# Altium footprint library Special.PcbLib: 67 footprints (part 3 of 5)
Each footprint in its own frame and in the unit in brackets; x right, y up, seen from the top. Pads: shape width x height; smd on the part's side, far side on the other; paste and mask are expansions set on the pad; w line width, h text height; cw(c..) or ccw(c..) is an arc to the next point about the centre after c.
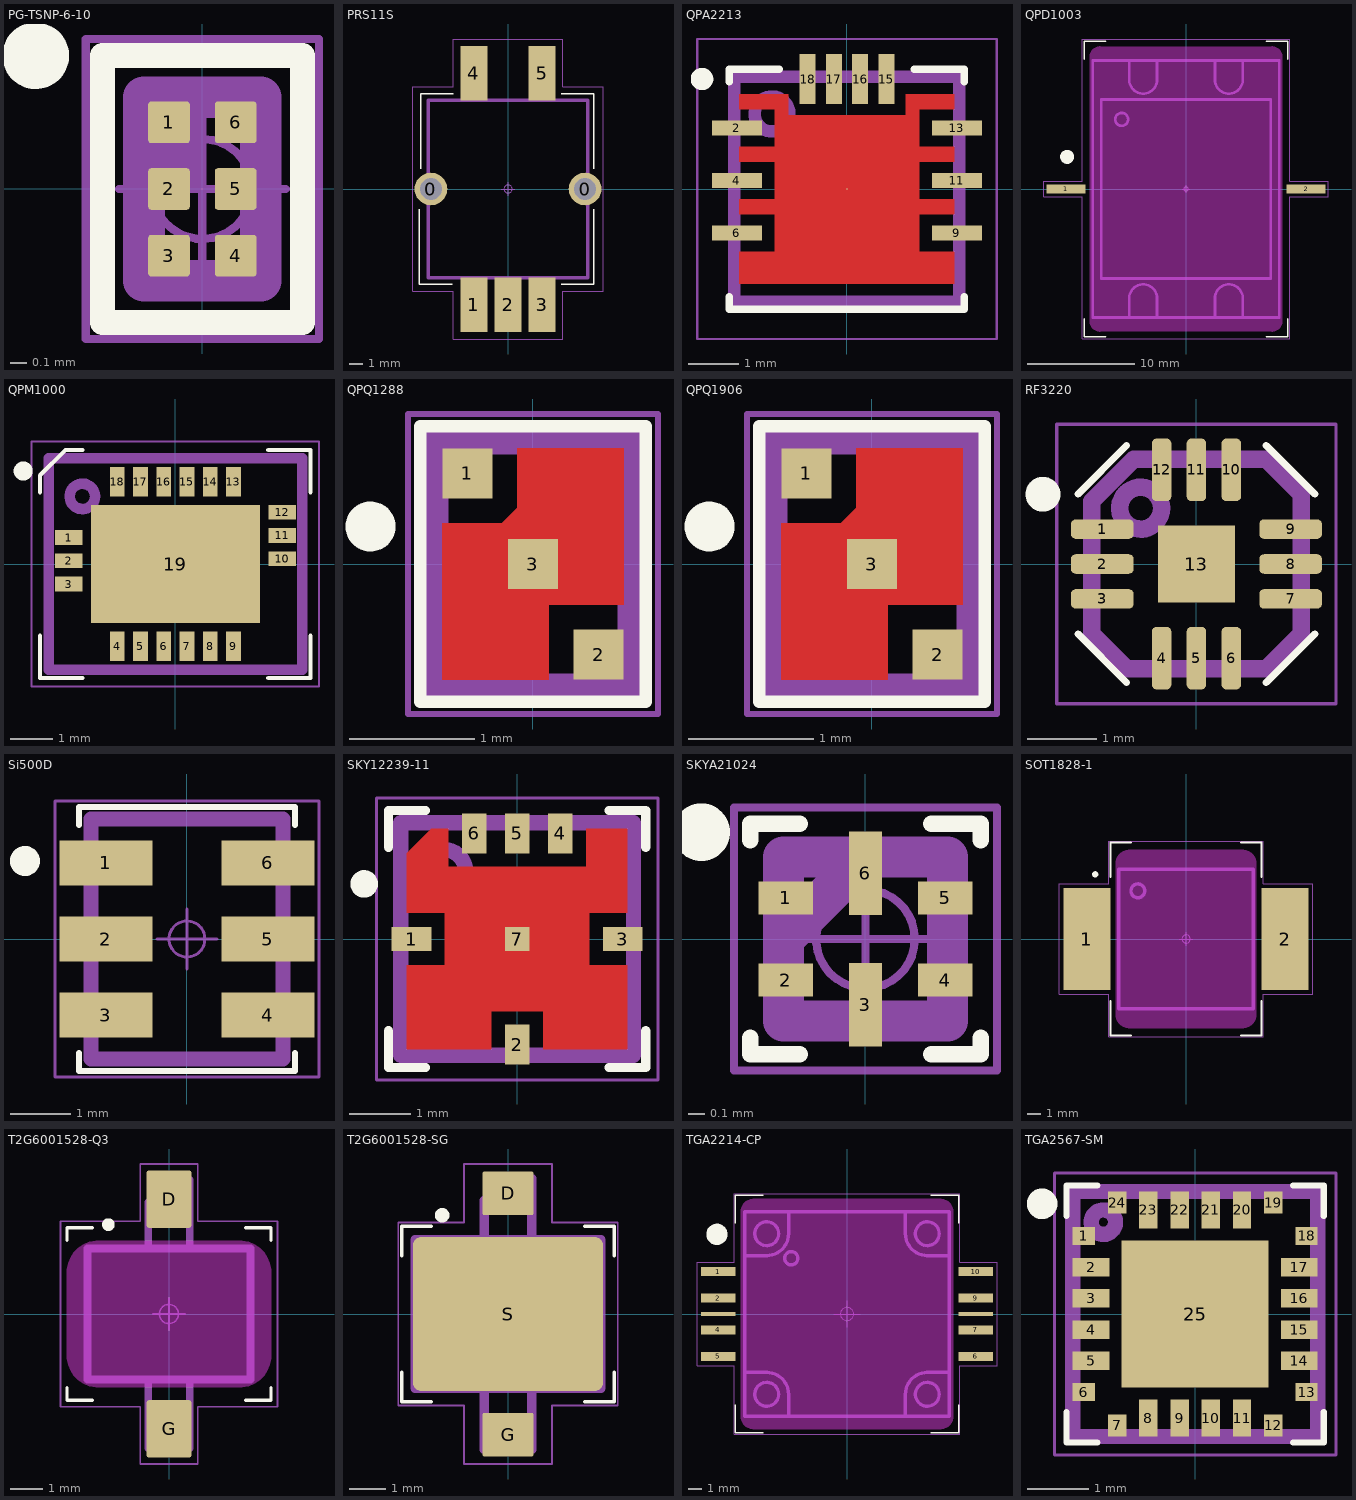
[diagram p2: the footprints below, top view; thin cyan lines are the x and y axes]

## PG-TSNP-6-10 [mm] "Infineon PG-TSNP-6-10 Package Outline (0.7mm x 1.1mm x 0.37mm)"
height 0.4
pads (6):
  rrect15% 0.25x0.25 smd: 1(-0.2,0.4) 2(-0.2,0) 3(-0.2,-0.4) 4(0.2,-0.4) 5(0.2,0) 6(0.2,0.4)
Top Overlay:
  circle w0.2: c-1,0.8 r0.1
  lines w0.15: -0.6,-0.8 -0.6,0.8 0.6,0.8 0.6,-0.8 -0.6,-0.8
Top Assembly:
  rectangle: -0.35,0 0,0.55
  lines w0.25: -0.35,-0.55 0.35,-0.55 0.35,0.55 -0.35,0.55 -0.35,-0.55
  text ".Designator" at 0.5,-0.318 h1.5
Top Courtyard:
  circle w0.05: c0,0 r0.3
  lines w0.05: -0.5,0 0.5,0 ; 0,-0.5 0,0.5 ; -0.7,-0.9 -0.7,0.9 0.7,0.9 0.7,-0.9 -0.7,-0.9
3D body "Case PG-TSNP-6-10.STEP": height 0.37, standoff 0, extent -0.35,-0.55 0.35,0.55

## PRS11S [mm] "PRS11S - 11 mm SMD Potentiometer"
height 20
pads (7):
  round 2.4 hole 1.6 unplated: 0(-5.65,0) 0(5.65,0)
  rect 2x4 smd: 1(-2.5,-8.5) 2(0,-8.5) 3(2.5,-8.5) 4(-2.5,8.5) 5(2.5,8.5)
Top Overlay:
  lines w0.1: -6.5,-1.5 -6.5,-7 -4.1,-7 ; -6.4,1.5 -6.4,7 -4,7 ; 3.9,-7 6.3,-7 6.3,-1.5 ; 3.9,7 6.3,7 6.3,1.5
Top Assembly:
  lines w0.25: -5.85,-6.5 -5.85,6.5 5.85,6.5 5.85,-6.5 -5.85,-6.5
  text ".Designator" at -3.3,-0.4 h1.5
Top Courtyard:
  circle w0.05: c0,0 r0.3
  lines w0.05: -0.5,0 0.5,0 ; 0,-0.5 0,0.5 ; -7,-7.5 -4,-7.5 -4,-11 4,-11 4,-7.5 7,-7.5 7,7.5 4,7.5 4,11 -4,11 -4,7.5 -7,7.5 -7,-7.5
3D body "PRS11S-11mm.STEP": height 20, standoff -1.4, extent -5.85,-9.5 5.85,9

## QPA2213 [mm] "Cu Based 4.5x4.5 Lamibate Package"
height 1.94
pads (11):
  round 0.025 smd: 1(0,0)
  rect 1x0.3 smd: 2(-2.2,1.216) 4(-2.2,0.166) 6(-2.2,-0.884) 9(2.2,-0.884) 11(2.2,0.166) 13(2.2,1.216)
  rect 0.32x1 smd: 15(0.787,2.2) 16(0.262,2.2) 17(-0.262,2.2) 18(-0.787,2.2)
Top Layer:
  region: -2.15,1.891 -1.171,1.891 -1.171,1.471 1.171,1.471 1.171,1.891 2.15,1.891 2.15,1.591 1.442,1.591 1.442,0.841 2.15,0.841 2.15,0.541 1.442,0.541 1.442,-0.209 2.15,-0.209 2.15,-0.509 1.442,-0.509 1.442,-1.259 2.15,-1.259 2.15,-1.891 -2.15,-1.891 -2.15,-1.259 -1.442,-1.259 -1.442,-0.509 -2.15,-0.509 -2.15,-0.209 -1.442,-0.209 -1.442,0.541 -2.15,0.541 -2.15,0.841 -1.442,0.841 -1.442,1.591 -2.15,1.591
Top Overlay:
  circle w0.25: c-2.9,2.2 r0.1
  lines w0.15: -2.35,-2.15 -2.35,-2.4 2.35,-2.4 2.35,-2.15 ; -2.35,2.15 -2.35,2.4 -1.35,2.4 ; 1.35,2.4 2.35,2.4 2.35,2.15
Top Assembly:
  circle w0.25: c-1.5,1.5 r0.35
  lines w0.25: -2.25,-2.25 2.25,-2.25 2.25,2.25 -2.25,2.25 -2.25,-2.25
  text ".Designator" at -3.378,-0.339 h1.5
Top Courtyard:
  circle w0.05: c0,0 r0.3
  lines w0.05: -0.5,0 0.5,0 ; 0,-0.5 0,0.5 ; -3,-3 3,-3 3,3 -3,3 -3,-3
3D body "QPA2213.STEP": height 1.74, standoff 0, extent -2.25,-2.25 2.25,2.25

## QPD1003 [mm] "Qorvo Flange RF-565"
height 1.9
pads (2):
  rect 3.6x0.8 smd: 1(-11.2,0) 2(11.2,0)
Top Overlay:
  circle w0.9: c-11.1,3 r0.2
  lines w0.15: -9.5,-12.1 -9.5,-13.8 -7.5,-13.8 ; -9.5,12.1 -9.5,13.8 -7.5,13.8 ; 7.5,-13.8 9.5,-13.8 9.5,-12.1 ; 7.5,13.8 9.5,13.8 9.5,12.1
Keep-Out Layer:
  board cut-out: -9,-12.3 -9,12.3 -9,12.398 -8.962,12.592 -8.886,12.774 -8.777,12.937 -8.637,13.077 -8.474,13.186 -8.292,13.262 -8.098,13.3 -8,13.3 8,13.3 8.098,13.3 8.292,13.262 8.474,13.186 8.637,13.077 8.777,12.937 8.886,12.774 8.962,12.592 9,12.398 9,12.3 9,-12.3 9,-12.398 8.962,-12.592 8.886,-12.774 8.777,-12.937 8.637,-13.077 8.474,-13.186 8.292,-13.262 8.098,-13.3 8,-13.3 -8,-13.3 -8.098,-13.3 -8.292,-13.262 -8.474,-13.186 -8.637,-13.077 -8.777,-12.937 -8.886,-12.774 -8.962,-12.592 -9,-12.398
Top Assembly:
  circle w0.25: c-6,6.5 r0.6
  lines w0.25: -5.3,-12 -5.3,-10.2 cw(c-4,-10.2) -2.7,-10.2 -2.7,-12 ; -5.3,12 -5.3,10.2 ccw(c-4,10.2) -2.7,10.2 -2.7,12 ; 2.7,-12 2.7,-10.2 cw(c4,-10.2) 5.3,-10.2 5.3,-12 ; 2.7,12 2.7,10.2 ccw(c4,10.2) 5.3,10.2 5.3,12 ; -8.7,-12 8.7,-12 8.7,12 -8.7,12 -8.7,-12 ; -7.9,-8.35 7.9,-8.35 7.9,8.35 -7.9,8.35 -7.9,-8.35
  text ".Designator" at -3.3,-0.2 h1.5
Top Courtyard:
  circle w0.05: c0,0 r0.2
  lines w0.05: -0.35,0 0.35,0 ; 0,-0.35 0,0.35 ; -13.3,-0.7 -9.7,-0.7 -9.7,-14 9.7,-14 9.7,-0.7 13.3,-0.7 13.3,0.7 9.7,0.7 9.7,14 -9.7,14 -9.7,0.7 -13.3,0.7 -13.3,-0.7
3D body "QPD1003.STEP": height 2, standoff -2.4, extent -12.2,-12 12.2,12

## QPM1000 [mm]
height 1.8
pads (19):
  rect 0.65x0.35 smd: 1(-2.525,0.625) 2(-2.525,0.075) 3(-2.525,-0.475) 10(2.525,0.125) 11(2.525,0.675) 12(2.525,1.225)
  rect 0.35x0.7 smd: 4(-1.375,-1.95) 5(-0.825,-1.95) 6(-0.275,-1.95) 7(0.275,-1.95) 8(0.825,-1.95) 9(1.375,-1.95) 13(1.375,1.95) 14(0.825,1.95) 15(0.275,1.95) 16(-0.275,1.95) 17(-0.825,1.95) 18(-1.375,1.95)
  rect 4x2.8 smd: 19(0,0)
Top Overlay:
  circle w0.25: c-3.6,2.2 r0.1
  lines w0.1: -3.2,-1.7 -3.2,-2.7 -2.2,-2.7 ; -3.2,1.7 -3.2,2.1 -2.6,2.7 -2.2,2.7 ; 2.2,-2.7 3.2,-2.7 3.2,-1.7 ; 2.2,2.7 3.2,2.7 3.2,1.7
Top Assembly:
  circle w0.25: c-2.2,1.6 r0.3
  lines w0.25: -3,-2.5 3,-2.5 3,2.5 -3,2.5 -3,-2.5
  text ".Designator" at -2.3,-0.4 h1.5
Top Courtyard:
  circle w0.05: c0,0 r0.3
  lines w0.05: -0.5,0 0.5,0 ; 0,-0.5 0,0.5 ; -3.4,-2.9 -3.4,2.9 3.4,2.9 3.4,-2.9 -3.4,-2.9
3D body "QPM1000.STEP": height 1.77, standoff 0, extent -3,-2.5 3,2.5

## QPQ1288 [mm] "Qorvo QPQ1288"
height 0.81
pads (3):
  rect 0.4x0.4 smd: 1(-0.525,0.725) 2(0.525,-0.725) 3(0,0)
Top Layer:
  region: 0.725,0.925 -0.125,0.925 -0.125,0.45 -0.25,0.325 -0.725,0.325 -0.725,-0.925 0.125,-0.925 0.125,-0.325 0.725,-0.325
Top Overlay:
  circle w0.2: c-1.3,0.3 r0.1
  lines w0.1: -0.9,-1.1 0.9,-1.1 0.9,1.1 -0.9,1.1 -0.9,-1.1
Top Assembly:
  lines w0.25: -0.8,-1 -0.8,1 0.8,1 0.8,-1 -0.8,-1
  text ".Designator" at -2,1.6 h1.5
Top Courtyard:
  circle w0.05: c0,0 r0.3
  lines w0.05: -0.5,0 0.5,0 ; 0,-0.5 0,0.5 ; -1,-1.2 1,-1.2 1,1.2 -1,1.2 -1,-1.2
3D body "QPQ1288.STEP": height 0.81, standoff 0, extent -0.8,-1 0.8,1

## QPQ1906 [mm] "Qorvo QPQ1906"
height 0.915
pads (3):
  rect 0.4x0.4 smd: 1(-0.525,0.725) 2(0.525,-0.725) 3(0,0)
Top Layer:
  region: 0.725,0.925 -0.125,0.925 -0.125,0.45 -0.25,0.325 -0.725,0.325 -0.725,-0.925 0.125,-0.925 0.125,-0.325 0.725,-0.325
Top Overlay:
  circle w0.2: c-1.3,0.3 r0.1
  lines w0.1: -0.9,-1.1 0.9,-1.1 0.9,1.1 -0.9,1.1 -0.9,-1.1
Top Assembly:
  lines w0.25: -0.8,-1 -0.8,1 0.8,1 0.8,-1 -0.8,-1
  text ".Designator" at -2,1.6 h1.5
Top Courtyard:
  circle w0.05: c0,0 r0.3
  lines w0.05: -0.5,0 0.5,0 ; 0,-0.5 0,0.5 ; -1,-1.2 1,-1.2 1,1.2 -1,1.2 -1,-1.2
3D body "QPQ1906.STEP": height 0.91, standoff 0, extent -0.8,-1 0.8,1

## RF3220 [mm] "RFMD RF3220"
height 0.9
pads (13):
  rrect50% 0.9x0.28 smd: 1(-1.35,0.5) 2(-1.35,0) 3(-1.35,-0.5) 7(1.35,-0.5) 8(1.35,0) 9(1.35,0.5)
  rrect50% 0.28x0.9 smd: 4(-0.5,-1.35) 5(0,-1.35) 6(0.5,-1.35) 10(0.5,1.35) 11(0,1.35) 12(-0.5,1.35)
  rect 1.1x1.1 smd: 13(0,0)
Top Overlay:
  circle w0.3: c-2.2,1 r0.1
  lines w0.1: -1.7,-1 -1,-1.7 ; -1.7,1 -1,1.7 ; 1,-1.7 1.7,-1 ; 1,1.7 1.7,1
Top Assembly:
  circle w0.25: c-0.8,0.8 r0.3
  lines w0.25: -1.5,-1 -1.5,0.9 -0.9,1.5 1,1.5 1.5,1 1.5,-1 1,-1.5 -1,-1.5 -1.5,-1
  text ".Designator" at -1.3,-0.6 h1.5
Top Courtyard:
  circle w0.05: c0,0 r0.3
  lines w0.05: -0.5,0 0.5,0 ; 0,-0.5 0,0.5 ; -2,-2 2,-2 2,2 -2,2 -2,-2
3D body "RF3220.STEP": height 0.9, standoff 0, extent -1.55,-1.55 1.55,1.55

## Si500D [mm] "Si500D 3.2 x 5.0 mm XOs"
height 0.9
pads (6):
  rect 1.55x0.75 smd: 1(-1.35,1.27) 2(-1.35,0) 3(-1.35,-1.27) 4(1.35,-1.27) 5(1.35,0) 6(1.35,1.27)
Top Overlay:
  circle w0.3: c-2.7,1.3 r0.1
  lines w0.1: -1.8,-1.9 -1.8,-2.2 1.8,-2.2 1.8,-1.9 ; -1.8,1.9 -1.8,2.2 1.8,2.2 1.8,1.9
Top Assembly:
  circle w0.25: c-1,1.3 r0.2
  lines w0.25: -1.6,-2 1.6,-2 1.6,2 -1.6,2 -1.6,-2
  text ".Designator" at 1.1,-1.7 h1.5
Top Courtyard:
  circle w0.05: c0,0 r0.3
  lines w0.05: -0.5,0 0.5,0 ; 0,-0.5 0,0.5 ; -2.2,-2.3 -2.2,2.3 2.2,2.3 2.2,-2.3 -2.2,-2.3
3D body "Si500D.STEP": height 0.9, standoff 0, extent -1.6,-2 1.6,2

## SKY12239-11 [mm] "Skyworks SKY12239-11 3.8x3.8x1.1 mm"
height 1.1
pads (7):
  rect 0.65x0.4 smd: 1(-1.725,0) 3(1.725,0)
  rect 0.4x0.65 smd: 2(0,-1.725) 4(0.7,1.725) 5(0,1.725) 6(-0.7,1.725)
  rect 0.4x0.4 smd: 7(0,0)
Top Layer:
  region: -1.4,1.8 -1.125,1.8 -1.125,1.18 1.125,1.18 1.125,1.8 1.8,1.8 1.8,0.425 1.18,0.425 1.18,-0.425 1.8,-0.425 1.8,-1.8 0.425,-1.8 0.425,-1.18 -0.425,-1.18 -0.425,-1.8 -1.8,-1.8 -1.8,-0.425 -1.18,-0.425 -1.18,0.425 -1.8,0.425 -1.8,1.4
Top Overlay:
  circle w0.25: c-2.5,0.9 r0.1
  lines w0.15: -2.1,-1.5 -2.1,-2.1 -1.5,-2.1 ; -2.1,1.5 -2.1,2.1 -1.5,2.1 ; 1.5,-2.1 2.1,-2.1 2.1,-1.5 ; 1.5,2.1 2.1,2.1 2.1,1.5
Top Assembly:
  circle w0.25: c-1.2,1.1 r0.361
  lines w0.25: -1.9,-1.9 1.9,-1.9 1.9,1.9 -1.9,1.9 -1.9,-1.9
  text ".Designator" at -1.3,-0.718 h1.5
Top Courtyard:
  circle w0.05: c0,0 r0.356
  lines w0.05: -0.7,0 0.7,0 ; 0,-0.7 0,0.7 ; -2.3,-2.3 2.3,-2.3 2.3,2.3 -2.3,2.3 -2.3,-2.3
3D body "SKY12239-11.STEP": height 1.1, standoff 0, extent -1.9,-1.9 1.9,1.9

## SKYA21024 [mm] "Slyworks SKYA21024"
height 0.5
pads (6):
  rect 0.33x0.2 smd: 1(-0.485,0.25) 2(-0.485,-0.25) 4(0.485,-0.25) 5(0.485,0.25)
  rect 0.2x0.51 smd: 3(0,-0.4) 6(0,0.4)
Top Overlay:
  circle w0.3: c-1,0.65 r0.025
  lines w0.1: -0.7,-0.6 -0.7,-0.7 -0.4,-0.7 ; -0.7,0.6 -0.7,0.7 -0.4,0.7 ; 0.4,-0.7 0.7,-0.7 0.7,-0.6 ; 0.4,0.7 0.7,0.7 0.7,0.6
Top Assembly:
  lines w0.25: -0.5,0 0,0.5 ; -0.5,-0.5 -0.5,0.5 0.5,0.5 0.5,-0.5 -0.5,-0.5
  text ".Designator" at -1.7,1 h1.5
Top Courtyard:
  circle w0.05: c0,0 r0.3
  lines w0.05: -0.5,0 0.5,0 ; 0,-0.5 0,0.5 ; -0.8,-0.8 0.8,-0.8 0.8,0.8 -0.8,0.8 -0.8,-0.8
3D body "SKYA21024.STEP": height 0.5, standoff 0, extent -0.55,-0.55 0.55,0.55

## SOT1828-1 [mm] "NXP CASE SOT1828-1"
height 2.5
pads (2):
  rect 3.4x7.4 smd: 1(-7.2,0) 2(7.2,0)
Top Overlay:
  circle w0.25: c-6.6,4.7 r0.1
  lines w0.15: -5.5,-4.5 -5.5,-7 -4,-7 ; -5.5,4.5 -5.5,7 -4,7 ; 4,-7 5.5,-7 5.5,-4.5 ; 4,7 5.5,7 5.5,4.5
Keep-Out Layer:
  board cut-out: -5.1,-5.5 -5.1,5.5 -5.1,5.598 -5.062,5.792 -4.986,5.974 -4.877,6.137 -4.737,6.277 -4.574,6.386 -4.392,6.462 -4.198,6.5 -4.1,6.5 4.1,6.5 4.198,6.5 4.392,6.462 4.574,6.386 4.737,6.277 4.877,6.137 4.986,5.974 5.062,5.792 5.1,5.598 5.1,5.5 5.1,-5.5 5.1,-5.598 5.062,-5.792 4.986,-5.974 4.877,-6.137 4.737,-6.277 4.574,-6.386 4.392,-6.462 4.198,-6.5 4.1,-6.5 -4.1,-6.5 -4.198,-6.5 -4.392,-6.462 -4.574,-6.386 -4.737,-6.277 -4.877,-6.137 -4.986,-5.974 -5.062,-5.792 -5.1,-5.598
Top Assembly:
  circle w0.25: c-3.5,3.5 r0.5
  lines w0.25: -4.9,-5.075 -4.9,5.075 4.9,5.075 4.9,-5.075 -4.9,-5.075
  text ".Designator" at -3.4,-0.3 h1.5
Top Courtyard:
  circle w0.05: c0,0 r0.3
  lines w0.05: -0.5,0 0.5,0 ; 0,-0.5 0,0.5 ; -9.2,-4 -5.6,-4 -5.6,-7.1 5.6,-7.1 5.6,-4 9.2,-4 9.2,4 5.6,4 5.6,7.1 -5.6,7.1 -5.6,4 -9.2,4 -9.2,-4
3D body "CASE SOT1828-1.STEP": height 2.57, standoff -1.58, extent -7.8,-5.08 7.8,5.08

## T2G6001528-Q3 [mm] "Qorvo T2G6001528-Q3"
height 1.7
pads (2):
  rrect10% 1.4x1.8 smd: D(0,3.6) G(0,-3.6)
Top Overlay:
  circle w0.2: c-1.9,2.8 r0.1
  lines w0.1: -3.2,-2.3 -3.2,-2.7 -2.4,-2.7 ; -3.2,2.3 -3.2,2.7 -2.4,2.7 ; 2.4,-2.7 3.2,-2.7 3.2,-2.3 ; 2.4,2.7 3.2,2.7 3.2,2.3
Keep-Out Layer:
  board cut-out: -3.2,-1.3 -3.2,1.3 -3.2,1.399 -3.162,1.592 -3.086,1.774 -2.977,1.937 -2.837,2.077 -2.674,2.186 -2.492,2.262 -2.298,2.3 -2.2,2.3 2.2,2.3 2.298,2.3 2.492,2.261 2.674,2.186 2.837,2.077 2.977,1.937 3.086,1.774 3.162,1.592 3.2,1.398 3.2,1.3 3.2,-1.3 3.2,-1.399 3.162,-1.592 3.086,-1.774 2.977,-1.938 2.837,-2.077 2.674,-2.186 2.492,-2.262 2.298,-2.3 2.2,-2.3 -2.2,-2.3 -2.298,-2.3 -2.492,-2.262 -2.674,-2.186 -2.837,-2.077 -2.977,-1.937 -3.086,-1.774 -3.162,-1.592 -3.2,-1.399
Top Assembly:
  lines w0.25: -0.65,-2.05 -0.65,-4.2 0.65,-4.2 0.65,-2.05 ; -0.65,2.05 -0.65,3.5 0.05,4.2 0.65,4.2 0.65,2.05 ; -2.55,-2.05 2.55,-2.05 2.55,2.05 -2.55,2.05 -2.55,-2.05
  text ".Designator" at -2.2,-0.3 h1.5
Top Courtyard:
  circle w0.05: c0,0 r0.3
  lines w0.05: -0.5,0 0.5,0 ; 0,-0.5 0,0.5 ; -3.4,-2.9 -0.9,-2.9 -0.9,-4.7 0.9,-4.7 0.9,-2.9 3.4,-2.9 3.4,2.9 0.9,2.9 0.9,4.7 -0.9,4.7 -0.9,2.9 -3.4,2.9 -3.4,-2.9
3D body "T2G6001528-Q3.STEP": height 2.08, standoff -0.71, extent -2.54,-4.203 2.54,4.204

## T2G6001528-SG [mm] "Qorvo T2G6001528-SG"
height 2.8
pads (3):
  rrect10% 1.4x1.2 smd: D(0,3.3) G(0,-3.3)
  rrect10% 5.2x4.2 smd: S(0,0)
Top Overlay:
  circle w0.2: c-1.8,2.7 r0.1
  lines w0.1: -2.9,-1.6 -2.9,-2.4 -2.1,-2.4 ; -2.9,1.6 -2.9,2.4 -2.1,2.4 ; 2.1,-2.4 2.9,-2.4 2.9,-1.6 ; 2.1,2.4 2.9,2.4 2.9,1.6
Top Assembly:
  lines w0.25: -0.65,-2.05 -0.65,-3.7 0.65,-3.7 0.65,-2.05 ; -0.65,2.05 -0.65,3.1 -0.05,3.7 0.65,3.7 0.65,2.05 ; -2.54,-2.03 -2.54,2.03 2.54,2.03 2.54,-2.03 -2.54,-2.03
  text ".Designator" at -2.2,-0.4 h1.5
Top Courtyard:
  circle w0.05: c0,0 r0.3
  lines w0.05: -0.5,0 0.5,0 ; 0,-0.5 0,0.5 ; -3,-2.5 -3,2.5 -1.2,2.5 -1.2,4.1 1.2,4.1 1.2,2.5 3,2.5 3,-2.5 1.2,-2.5 1.2,-4.1 -1.2,-4.1 -1.2,-2.5 -3,-2.5
3D body "T2G6001528-SG.STEP": height 2.79, standoff 0, extent -2.54,-3.683 2.54,3.683

## TGA2214-CP [mm] "10-lead 15x15 mm  bolt-down package with a Cu base"
height 2.1
pads (10):
  rect 2.6x0.7 smd: 1(-9.7,3.2) 2(-9.7,1.2) 4(-9.7,-1.2) 5(-9.7,-3.2) 6(9.7,-3.2) 7(9.7,-1.2) 9(9.7,1.2) 10(9.7,3.2)
  rect 2.6x0.3 smd: 3(-9.7,0) 8(9.7,0)
Top Overlay:
  circle w0.8: c-9.8,6 r0.4
  lines w0.1: -8.4,-6.85 -8.4,-8.95 -6.3,-8.95 ; -8.4,6.85 -8.4,8.95 -6.3,8.95 ; 6.3,-8.95 8.4,-8.95 8.4,-6.85 ; 6.3,8.95 8.4,8.95 8.4,6.85
Keep-Out Layer:
  board cut-out: -7,8.7 7,8.7 7.098,8.7 7.292,8.662 7.474,8.586 7.637,8.477 7.777,8.337 7.886,8.174 7.962,7.992 8,7.798 8,7.7 8,-7.7 8,-7.799 7.962,-7.992 7.886,-8.174 7.777,-8.337 7.637,-8.477 7.474,-8.586 7.292,-8.662 7.098,-8.7 7,-8.7 -7,-8.7 -7.098,-8.7 -7.292,-8.662 -7.474,-8.586 -7.637,-8.477 -7.777,-8.337 -7.886,-8.174 -7.962,-7.992 -8,-7.798 -8,-7.7 -8,7.7 -8,7.798 -7.962,7.992 -7.886,8.174 -7.777,8.337 -7.638,8.477 -7.474,8.586 -7.292,8.662 -7.099,8.7
Top Assembly:
  circle w0.25: c-4.2,4.2 r0.5
  circle w0.25: c-6.05,-6.05 r0.9
  circle w0.25: c6.05,-6.05 r0.9
  circle w0.25: c6.05,6.05 r0.9
  circle w0.25: c-6.05,6.05 r0.9
  lines w0.25: -7.7,-4.4 -6,-4.4 ; -7.7,4.4 -6,4.4 ; -6.05,-4.4 cw(c-6.05,-6.05) -4.4,-6.05 ; -6.05,4.4 ccw(c-6.05,6.05) -4.4,6.05 ; -4.4,-7.7 -4.4,-6 ; -4.4,6 -4.4,7.7 ; 4.4,-7.7 4.4,-6 ; 4.4,-6.05 cw(c6.05,-6.05) 6.05,-4.4 ; 4.4,6 4.4,7.7 ; 4.4,6.05 ccw(c6.05,6.05) 6.05,4.4 ; 6,-4.4 7.7,-4.4 ; 6,4.4 7.7,4.4 ; -7.7,-7.7 -7.7,7.7 7.7,7.7 7.7,-7.7 -7.7,-7.7
  text ".Designator" at -2.7,-0.2 h1.5
Top Courtyard:
  circle w0.05: c0,0 r0.5
  lines w0.05: -1,0 1,0 ; 0,-1 0,1 ; -11.3,-3.9 -8.5,-3.9 -8.5,-9.05 8.5,-9.05 8.5,-3.9 11.3,-3.9 11.3,3.9 8.5,3.9 8.5,9.05 -8.5,9.05 -8.5,3.9 -11.3,3.9 -11.3,-3.9
3D body "TGA2214-CP.STEP": height 2.08, standoff -1.42, extent -9.525,-7.62 9.525,7.62

## TGA2567-SM [mm] "Qorvo TGA-2567-SM"
height 1.7
pads (25):
  rect 0.36x0.3 smd: 1(-1.82,1.275) 6(-1.82,-1.275) 13(1.82,-1.275) 18(1.82,1.275)
  rect 0.6x0.3 smd: 2(-1.7,0.765) 3(-1.7,0.255) 4(-1.7,-0.255) 5(-1.7,-0.765) 14(1.7,-0.765) 15(1.7,-0.255) 16(1.7,0.255) 17(1.7,0.765)
  rect 0.3x0.36 smd: 7(-1.275,-1.82) 12(1.275,-1.82) 19(1.275,1.82) 24(-1.275,1.82)
  rect 0.3x0.6 smd: 8(-0.765,-1.7) 9(-0.255,-1.7) 10(0.255,-1.7) 11(0.765,-1.7) 20(0.765,1.7) 21(0.255,1.7) 22(-0.255,1.7) 23(-0.765,1.7)
  rect 2.4x2.4 smd: 25(0,0)
Top Overlay:
  circle w0.3: c-2.5,1.8 r0.1
  lines w0.1: -2.1,-1.6 -2.1,-2.1 -1.6,-2.1 ; -2.1,1.6 -2.1,2.1 -1.6,2.1 ; 1.6,-2.1 2.1,-2.1 2.1,-1.6 ; 1.6,2.1 2.1,2.1 2.1,1.6
Top Assembly:
  circle w0.25: c-1.5,1.5 r0.2
  lines w0.25: -2,-2 2,-2 2,2 -2,2 -2,-2
  text ".Designator" at -1.7,-0.4 h1.5
Top Courtyard:
  circle w0.05: c0,0 r0.3
  lines w0.05: -0.5,0 0.5,0 ; 0,-0.5 0,0.5 ; -2.3,-2.3 2.3,-2.3 2.3,2.3 -2.3,2.3 -2.3,-2.3
3D body "TGA2567-SM.STEP": height 1.72, standoff 0, extent -1.994,-1.994 1.994,1.994